# Altium footprint library Common-Parts-Library.PcbLib: 530 footprints (part 8 of 34)
Each footprint in its own frame and in the unit in brackets; x right, y up, seen from the top. Pads: shape width x height; smd on the part's side, far side on the other; paste and mask are expansions set on the pad; w line width, h text height; cw(c..) or ccw(c..) is an arc to the next point about the centre after c.
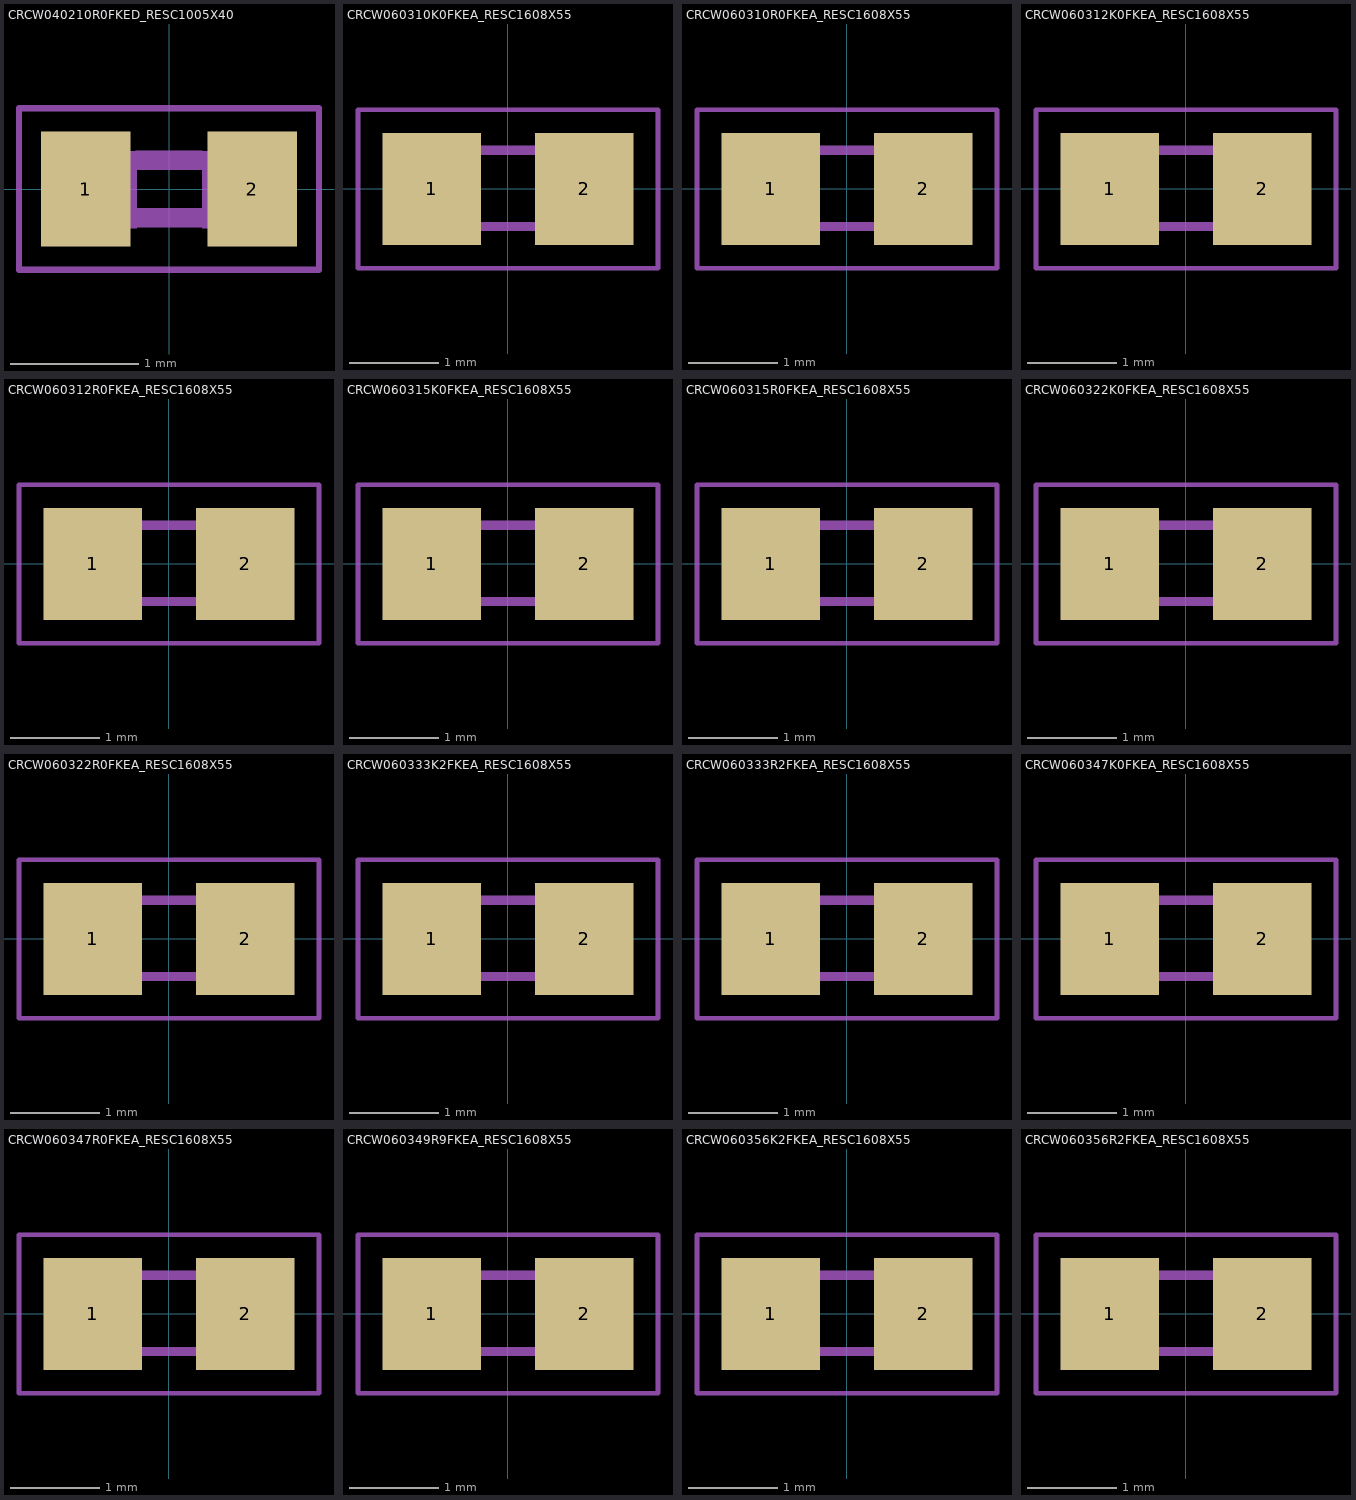
[diagram p7: the footprints below, top view; thin cyan lines are the x and y axes]

## CRCW040210R0FKED_RESC1005X40 [mm]
pads (2):
  rect 0.7x0.9 smd: 1(-0.65,0) 2(0.65,0)
Mechanical 1:
  region: 0.259,0.295 0.559,0.295 0.559,-0.305 0.259,-0.305
  region: -0.555,0.295 -0.254,0.295 -0.254,-0.305 -0.555,-0.305
  lines w0.051: -1.173,-0.633 -1.173,0.633 1.173,0.633 1.173,-0.633 -1.173,-0.633
  lines w0.152: -0.245,-0.224 0.245,-0.224 ; -0.245,0.224 0.245,0.224

## CRCW060310K0FKEA_RESC1608X55 [mm]
pads (2):
  rect 1.1x1.25 smd: 1(-0.85,0) 2(0.85,0)
Mechanical 1:
  region: 0.331,0.48 0.83,0.48 0.83,-0.471 0.331,-0.471
  region: -0.839,0.48 -0.338,0.48 -0.338,-0.471 -0.839,-0.471
  lines w0.051: -1.673,-0.883 -1.673,0.883 1.673,0.883 1.673,-0.883 -1.673,-0.883
  lines w0.102: -0.356,-0.419 0.356,-0.419 ; -0.356,0.432 0.356,0.432

## CRCW060310R0FKEA_RESC1608X55 [mm]
pads (2):
  rect 1.1x1.25 smd: 1(-0.85,0) 2(0.85,0)
Mechanical 1:
  region: 0.331,0.48 0.83,0.48 0.83,-0.471 0.331,-0.471
  region: -0.841,0.48 -0.338,0.48 -0.338,-0.471 -0.841,-0.471
  lines w0.051: -1.673,-0.883 -1.673,0.883 1.673,0.883 1.673,-0.883 -1.673,-0.883
  lines w0.102: -0.356,-0.419 0.356,-0.419 ; -0.356,0.432 0.356,0.432

## CRCW060312K0FKEA_RESC1608X55 [mm]
pads (2):
  rect 1.1x1.25 smd: 1(-0.85,0) 2(0.85,0)
Mechanical 1:
  region: 0.331,0.48 0.83,0.48 0.83,-0.471 0.331,-0.471
  region: -0.84,0.48 -0.338,0.48 -0.338,-0.471 -0.84,-0.471
  lines w0.051: -1.673,-0.883 -1.673,0.883 1.673,0.883 1.673,-0.883 -1.673,-0.883
  lines w0.102: -0.356,-0.419 0.356,-0.419 ; -0.356,0.432 0.356,0.432

## CRCW060312R0FKEA_RESC1608X55 [mm]
pads (2):
  rect 1.1x1.25 smd: 1(-0.85,0) 2(0.85,0)
Mechanical 1:
  region: 0.331,0.48 0.83,0.48 0.83,-0.471 0.331,-0.471
  region: -0.84,0.48 -0.338,0.48 -0.338,-0.471 -0.84,-0.471
  lines w0.051: -1.673,-0.883 -1.673,0.883 1.673,0.883 1.673,-0.883 -1.673,-0.883
  lines w0.102: -0.356,-0.419 0.356,-0.419 ; -0.356,0.432 0.356,0.432

## CRCW060315K0FKEA_RESC1608X55 [mm]
pads (2):
  rect 1.1x1.25 smd: 1(-0.85,0) 2(0.85,0)
Mechanical 1:
  region: 0.331,0.48 0.83,0.48 0.83,-0.471 0.331,-0.471
  region: -0.838,0.48 -0.338,0.48 -0.338,-0.47 -0.838,-0.47
  lines w0.051: -1.673,-0.883 -1.673,0.883 1.673,0.883 1.673,-0.883 -1.673,-0.883
  lines w0.102: -0.356,-0.419 0.356,-0.419 ; -0.356,0.432 0.356,0.432

## CRCW060315R0FKEA_RESC1608X55 [mm]
pads (2):
  rect 1.1x1.25 smd: 1(-0.85,0) 2(0.85,0)
Mechanical 1:
  region: 0.331,0.48 0.83,0.48 0.83,-0.471 0.331,-0.471
  region: -0.841,0.48 -0.338,0.48 -0.338,-0.471 -0.841,-0.471
  lines w0.051: -1.673,-0.883 -1.673,0.883 1.673,0.883 1.673,-0.883 -1.673,-0.883
  lines w0.102: -0.356,-0.419 0.356,-0.419 ; -0.356,0.432 0.356,0.432

## CRCW060322K0FKEA_RESC1608X55 [mm]
pads (2):
  rect 1.1x1.25 smd: 1(-0.85,0) 2(0.85,0)
Mechanical 1:
  region: 0.331,0.48 0.83,0.48 0.83,-0.47 0.331,-0.47
  region: -0.841,0.48 -0.338,0.48 -0.338,-0.472 -0.841,-0.472
  lines w0.051: -1.673,-0.883 -1.673,0.883 1.673,0.883 1.673,-0.883 -1.673,-0.883
  lines w0.102: -0.356,-0.419 0.356,-0.419 ; -0.356,0.432 0.356,0.432

## CRCW060322R0FKEA_RESC1608X55 [mm]
pads (2):
  rect 1.1x1.25 smd: 1(-0.85,0) 2(0.85,0)
Mechanical 1:
  region: 0.331,0.48 0.83,0.48 0.83,-0.471 0.331,-0.471
  region: -0.839,0.48 -0.338,0.48 -0.338,-0.47 -0.839,-0.47
  lines w0.051: -1.673,-0.883 -1.673,0.883 1.673,0.883 1.673,-0.883 -1.673,-0.883
  lines w0.102: -0.356,-0.419 0.356,-0.419 ; -0.356,0.432 0.356,0.432

## CRCW060333K2FKEA_RESC1608X55 [mm]
pads (2):
  rect 1.1x1.25 smd: 1(-0.85,0) 2(0.85,0)
Mechanical 1:
  region: 0.331,0.48 0.83,0.48 0.83,-0.47 0.331,-0.47
  region: -0.84,0.48 -0.338,0.48 -0.338,-0.471 -0.84,-0.471
  lines w0.051: -1.673,-0.883 -1.673,0.883 1.673,0.883 1.673,-0.883 -1.673,-0.883
  lines w0.102: -0.356,-0.419 0.356,-0.419 ; -0.356,0.432 0.356,0.432

## CRCW060333R2FKEA_RESC1608X55 [mm]
pads (2):
  rect 1.1x1.25 smd: 1(-0.85,0) 2(0.85,0)
Mechanical 1:
  region: 0.331,0.48 0.83,0.48 0.83,-0.471 0.331,-0.471
  region: -0.84,0.48 -0.338,0.48 -0.338,-0.471 -0.84,-0.471
  lines w0.051: -1.673,-0.883 -1.673,0.883 1.673,0.883 1.673,-0.883 -1.673,-0.883
  lines w0.102: -0.356,-0.419 0.356,-0.419 ; -0.356,0.432 0.356,0.432

## CRCW060347K0FKEA_RESC1608X55 [mm]
pads (2):
  rect 1.1x1.25 smd: 1(-0.85,0) 2(0.85,0)
Mechanical 1:
  region: 0.331,0.48 0.83,0.48 0.83,-0.471 0.331,-0.471
  region: -0.841,0.48 -0.338,0.48 -0.338,-0.471 -0.841,-0.471
  lines w0.051: -1.673,-0.883 -1.673,0.883 1.673,0.883 1.673,-0.883 -1.673,-0.883
  lines w0.102: -0.356,-0.419 0.356,-0.419 ; -0.356,0.432 0.356,0.432

## CRCW060347R0FKEA_RESC1608X55 [mm]
pads (2):
  rect 1.1x1.25 smd: 1(-0.85,0) 2(0.85,0)
Mechanical 1:
  region: 0.331,0.48 0.83,0.48 0.83,-0.471 0.331,-0.471
  region: -0.84,0.48 -0.338,0.48 -0.338,-0.471 -0.84,-0.471
  lines w0.051: -1.673,-0.883 -1.673,0.883 1.673,0.883 1.673,-0.883 -1.673,-0.883
  lines w0.102: -0.356,-0.419 0.356,-0.419 ; -0.356,0.432 0.356,0.432

## CRCW060349R9FKEA_RESC1608X55 [mm]
pads (2):
  rect 1.1x1.25 smd: 1(-0.85,0) 2(0.85,0)
Mechanical 1:
  region: 0.33,0.48 0.83,0.48 0.83,-0.47 0.33,-0.47
  region: -0.839,0.48 -0.338,0.48 -0.338,-0.47 -0.839,-0.47
  lines w0.051: -1.673,-0.883 -1.673,0.883 1.673,0.883 1.673,-0.883 -1.673,-0.883
  lines w0.102: -0.356,-0.419 0.356,-0.419 ; -0.356,0.432 0.356,0.432

## CRCW060356K2FKEA_RESC1608X55 [mm]
pads (2):
  rect 1.1x1.25 smd: 1(-0.85,0) 2(0.85,0)
Mechanical 1:
  region: 0.33,0.48 0.83,0.48 0.83,-0.47 0.33,-0.47
  region: -0.84,0.48 -0.338,0.48 -0.338,-0.471 -0.84,-0.471
  lines w0.051: -1.673,-0.883 -1.673,0.883 1.673,0.883 1.673,-0.883 -1.673,-0.883
  lines w0.102: -0.356,-0.419 0.356,-0.419 ; -0.356,0.432 0.356,0.432

## CRCW060356R2FKEA_RESC1608X55 [mm]
pads (2):
  rect 1.1x1.25 smd: 1(-0.85,0) 2(0.85,0)
Mechanical 1:
  region: 0.33,0.48 0.83,0.48 0.83,-0.47 0.33,-0.47
  region: -0.84,0.48 -0.338,0.48 -0.338,-0.471 -0.84,-0.471
  lines w0.051: -1.673,-0.883 -1.673,0.883 1.673,0.883 1.673,-0.883 -1.673,-0.883
  lines w0.102: -0.356,-0.419 0.356,-0.419 ; -0.356,0.432 0.356,0.432